# Altium schematic symbol library PUMAlib.SchLib: 66 symbols
Pins are listed as number, name and electrical type; pins without a type are passive.

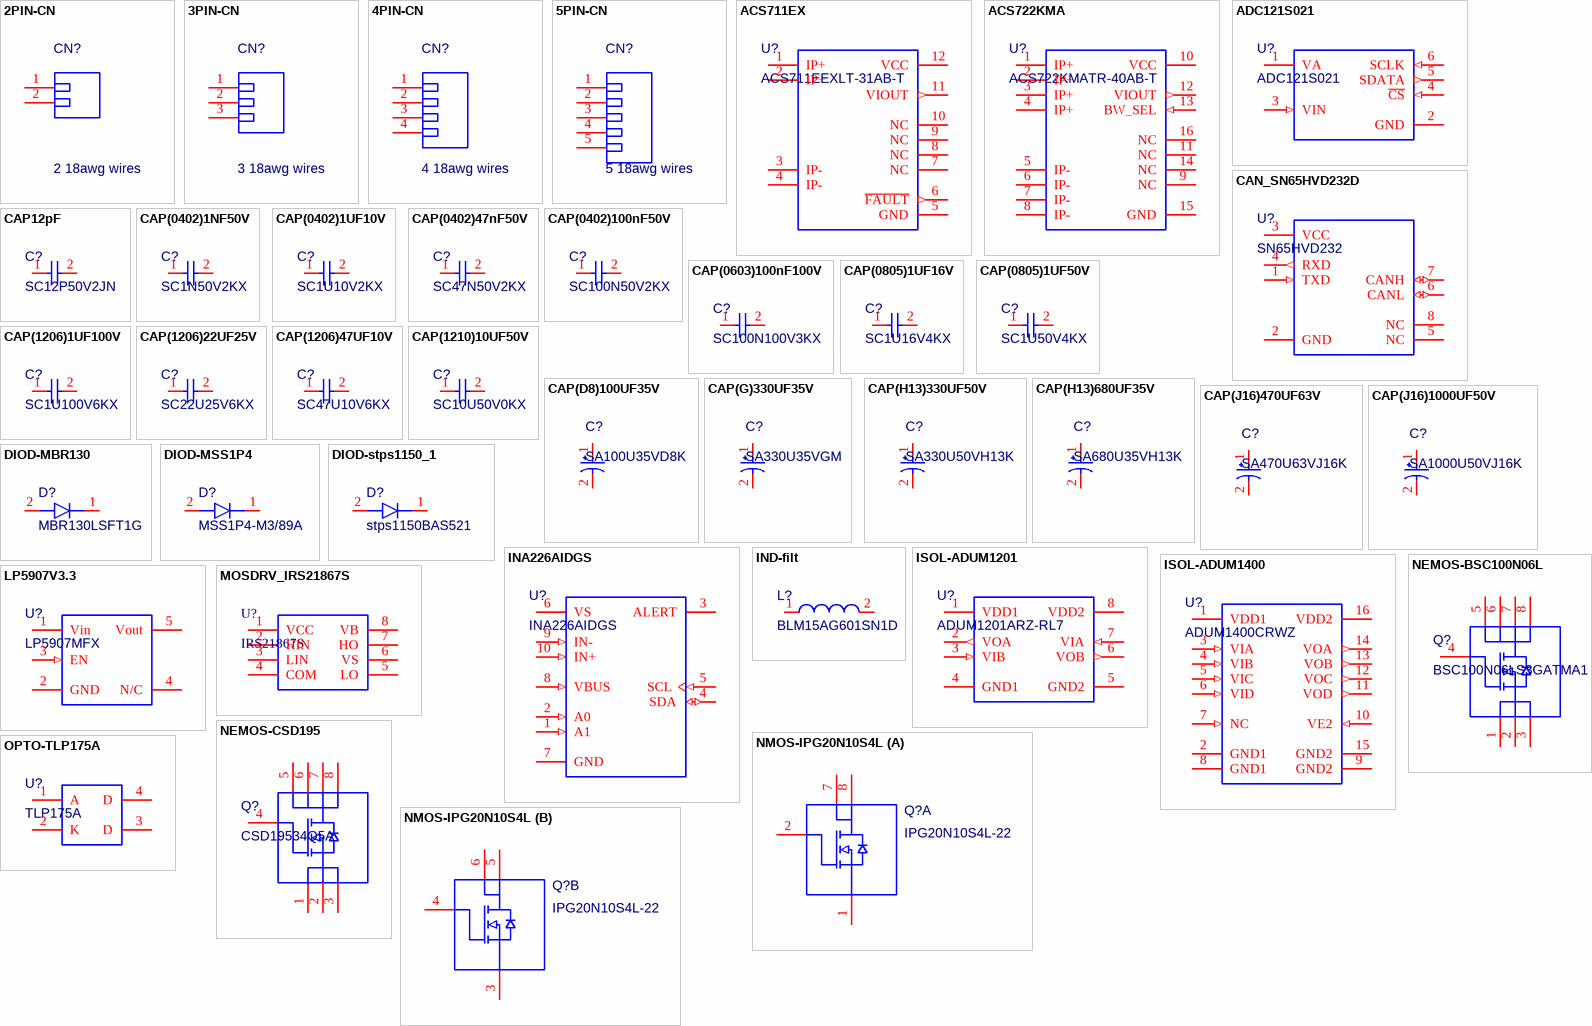
[diagram p0: symbols 2PIN-CN to OPTO-TLP175A]

## 2PIN-CN
designator CN?, comment 2 18awg wires  (no BOM)
2 holes for 18awg wire; Manufacturer: JST; Datasheet URL: http://www.jst-mfg.com/product/pdf/eng/eGH.pdf; Package Reference: JST-BM04B-GHS-TBT
footprint 2PHEADERS-2D54
pins: 1, 2

## 3PIN-CN
designator CN?, comment 3 18awg wires  (no BOM)
3 holes for 18awg wire; Manufacturer: JST; Datasheet URL: http://www.jst-mfg.com/product/pdf/eng/eGH.pdf; Package Reference: JST-BM04B-GHS-TBT
footprint 3PHEADERS-2D54
pins: 1, 2, 3

## 4PIN-CN
designator CN?, comment 4 18awg wires  (no BOM)
4 holes for 18awg wire; Manufacturer: JST; Datasheet URL: http://www.jst-mfg.com/product/pdf/eng/eGH.pdf; Package Reference: JST-BM04B-GHS-TBT
footprint 4PHEADERS-2D54
pins: 1, 2, 3, 4

## 5PIN-CN
designator CN?, comment 5 18awg wires  (no BOM)
5 holes for 18awg wire; Manufacturer: JST; Datasheet URL: http://www.jst-mfg.com/product/pdf/eng/eGH.pdf; Package Reference: JST-BM04B-GHS-TBT
footprint 5PHEADERS-2D54
pins: 1, 2, 3, 4, 5

## ACS711EX
designator U?, comment ACS711EEXLT-31AB-T
High Accuracy, Hall-Effect Based Current Sensor / IC in High Isolation QFN Package
footprint ACS711EX (QFN,)
pins: 1 IP+, 2 IP+, 3 IP-, 4 IP-, 5 GND (power), 6 ~{FAULT} (out), 7 NC, 8 NC, 9 NC, 10 NC, 11 VIOUT (out), 12 VCC (power)

## ACS722KMA
designator U?, comment ACS722KMATR-40AB-T
High Accuracy, Hall-Effect Based Current Sensor / IC in High Isolation SOIC16 Package
footprint SOIC127P1030X265-16L (SOIC, 16-Leads, Body 10,30x7,50mm, Pitch 1,27mm, IPC High Density)
pins: 1 IP+, 2 IP+, 3 IP+, 4 IP+, 5 IP-, 6 IP-, 7 IP-, 8 IP-, 9 NC, 10 VCC (power), 11 NC, 12 VIOUT (out), 13 BW_SEL (in), 14 NC, 15 GND (power), 16 NC

## ADC121S021
designator U?
Single-Channel, 50- to 200-ksps, 12-Bit A/D Converter
footprint SOT-23-adc (SOT23, 6-Leads, Body 2,90x2,80mm, Pitch 0,95mm, IPC High Density)
pins: 1 VA (power), 2 GND (power), 3 VIN (in), 4 ~{CS} (in), 5 SDATA (out), 6 SCLK (in)

## CAN_SN65HVD232D
designator U?, comment SN65HVD232
IC CAN TRANSCEIVER 8-SOIC
footprint SOIC127P600X175-8L (SOIC, 8-Leads, Body 4,90x3,90mm, Pitch 1,27mm, IPC High Density)
pins: 1 TXD (in), 2 GND (power), 3 VCC (power), 4 RXD (out), 5 NC, 6 CANL (io), 7 CANH (io), 8 NC

## CAP12pF
designator C?, comment SC12P50V2JN
CAP 12pF 50V ±5% 0402 (1005 Metric) Thickness 0.33mm SMD
footprint CAPC0402(1005)33_L
pins: 1, 2

## CAP(0402)1NF50V
designator C?, comment SC1N50V2KX
CAP 1nF 50V ±10% 0402 (1005 Metric) Thickness 0.6mm SMD
footprint CAPC0402(1005)60_L
pins: 1, 2

## CAP(0402)1UF10V
designator C?, comment SC1U10V2KX
CAP 1uF 10V ±10% 0402 (1005 Metric) Thickness 0.6mm SMD
footprint CAPC0402(1005)60_L
pins: 1, 2

## CAP(0402)47nF50V
designator C?, comment SC47N50V2KX
CAP 47nF 50V ±10% 0402 (1005 Metric) Thickness 0.6mm SMD
footprint CAPC0402(1005)60_L
pins: 1, 2

## CAP(0402)100nF50V
designator C?, comment SC100N50V2KX
CAP 100nF 50V ±10% 0402 (1005 Metric) Thickness 0.6mm SMD
footprint CAPC0402(1005)60_L
pins: 1, 2

## CAP(0603)100nF100V
designator C?, comment SC100N100V3KX
CAP 100nF 100V ±10% 0603(1608 Metric) Thickness 1mm SMD
footprint CAPC0603(1608)100_L
pins: 1, 2

## CAP(0805)1UF16V
designator C?, comment SC1U16V4KX
CAP 1uF 16V ±10% 0805(1610 Metric) Thickness 0.6mm SMD
footprint CAPC0805(2012)145_L
pins: 1, 2

## CAP(0805)1UF50V
designator C?, comment SC1U50V4KX
CAP 1uF 50V ±10% 0805(1610 Metric) Thickness 1.2mm SMD
footprint CAPC0805(2012)145_L
pins: 1, 2

## CAP(1206)1UF100V
designator C?, comment SC1U100V6KX
CAP 1uF 100V ±10% 1206(3216 Metric) Thickness 1.8mm SMD
footprint CAPC1206(3216) (Chip Capacitor, 2-Leads, Body 3,20x1,60mm, IPC High Density)
pins: 1, 2

## CAP(1206)22UF25V
designator C?, comment SC22U25V6KX
CAP 22uF 25V ±10% 1206(3216 Metric) Thickness 1.8mm SMD
footprint CAPC1206(3216) (Chip Capacitor, 2-Leads, Body 3,20x1,60mm, IPC High Density)
pins: 1, 2

## CAP(1206)47UF10V
designator C?, comment SC47U10V6KX
CAP 47uF 10V ±10% 1206(3216 Metric) Thickness 1.8mm SMD
footprint CAPC1206(3216) (Chip Capacitor, 2-Leads, Body 3,20x1,60mm, IPC High Density)
pins: 1, 2

## CAP(1210)10UF50V
designator C?, comment SC10U50V0KX
CAP 10uF 50V ±10% 1210(3225 Metric) Thickness 1.7mm SMD
footprint CAPC3225X27L (Chip Capacitor, 2-Leads, Body 3,20x2,50mm, IPC High Density)
pins: 1, 2

## CAP(D8)100UF35V
designator C?, comment SA100U35VD8K
CAP 100uF 35V ±10% D8 Thickness 7.7mm SMD
footprint CAPAE(D8)7666X80L (Aluminum Electrolytic Capacitor, Body 6,60x6,60x8,00mm, IPC High Density)
pins: 1, 2

## CAP(G)330UF35V
designator C?, comment SA330U35VGM
CAP 330uF 35V ±20% G Thickness 14mm SMD
footprint CAPAE118103X105L (Aluminum Electrolytic Capacitor, Body 10,30x10,30x10,50mm, IPC High Density)
pins: 1, 2

## CAP(H13)330UF50V
designator C?, comment SA330U50VH13K
CAP 330uF 50V ±10% H13 Thickness 14mm SMD
footprint CAPAE145135X140L (Aluminum Electrolytic Capacitor, Body 13,50x13,50x14,00mm, IPC High Density)
pins: 1, 2

## CAP(H13)680UF35V
designator C?, comment SA680U35VH13K
CAP 680uF 35V ±10% H13 Thickness 14mm SMD
footprint CAPAE145135X140L (Aluminum Electrolytic Capacitor, Body 13,50x13,50x14,00mm, IPC High Density)
pins: 1, 2

## CAP(J16)470UF63V
designator C?, comment SA470U63VJ16K
EEVFK1J471M CAP 470uF 63V ±10% J16 Thickness 17mm SMD
footprint CAPAE184170X170L (Aluminum Electrolytic Capacitor, Body 17,00x17,00x17,00mm, IPC High Density)
pins: 1, 2

## CAP(J16)1000UF50V
designator C?, comment SA1000U50VJ16K
CAP 1000uF 50V ±10% J16 Thickness 17mm SMD
footprint CAPAE184170X170L (Aluminum Electrolytic Capacitor, Body 17,00x17,00x17,00mm, IPC High Density)
pins: 1, 2

## DIOD-MBR130
designator D?, comment MBR130LSFT1G
1А 30В [SOD-123FL] / , RoHS, Tape and Reel; Manufacturer: Rohm; Package Reference: ROHM-1SS400CSFH; Datasheet URL: https://www.rohm.com/datasheet/1SS400CSFH/1ss400csfht2ra-e
footprint SOD-123LF (SODFL, 2-Leads, Body 1,65x3,60mm, IPC High Density)
pins: 1 K, 2 A

## DIOD-MSS1P4
designator D?, comment MSS1P4-M3/89A
40 V, 1 A, 2-Pin MicroSMP (DO-219AD) / , RoHS, Tape and Reel; Manufacturer: Rohm; Package Reference: ROHM-1SS400CSFH; Datasheet URL: https://www.rohm.com/datasheet/1SS400CSFH/1ss400csfht2ra-e
footprint SODFL250X73-2L (SODFL, 2-Leads, Body 1,30x2,50mm, IPC High Density)
pins: 1 K, 2 A

## DIOD-stps1150_1
designator D?, comment stps1150BAS521
150 V, 1 A, 2-Pin SMA, RoHS, Tape and Reel; Manufacturer: Rohm; Package Reference: ROHM-1SS400CSFH; Datasheet URL: https://www.rohm.com/datasheet/1SS400CSFH/1ss400csfht2ra-e
footprint SMA-DIOD (Molded Diode, 2-Leads, Body 4,28x2,58mm, IPC High Density)
pins: 1 K, 2 A

## INA226AIDGS
designator U?
High or Low Side Measurement, 2.7 to 5.5 V, -40 to 125 degC, 16-Pin QFN, RoHS, Tape and Reel
footprint TSSOP50P500X110-10L (TSSOP, 10-Leads, Body 3,00x3,00mm, Pitch 0,50mm, IPC High Density)
pins: 1 A1 (in), 2 A0 (in), 3 ALERT (oc), 4 SDA (io), 5 SCL (in), 6 VS (power), 7 GND (power), 8 VBUS (in), 9 IN- (in), 10 IN+ (in)

## IND-filt
designator L?, comment BLM15AG601SN1D
Chip Ferrite Bead Single Type 600 Ohms 300mA
footprint INDC1005X06L (Chip Inductor, 2-Leads, Body 1,00x0,50mm, IPC High Density)
pins: 1, 2

## ISOL-ADUM1201
designator U?, comment ADUM1201ARZ-RL7
ISOLATOR 1ch out/ 1ch in
footprint SOIC127P600X175-8L (SOIC, 8-Leads, Body 4,90x3,90mm, Pitch 1,27mm, IPC High Density)
pins: 1 VDD1 (power), 2 VOA (out), 3 VIB (in), 4 GND1 (power), 5 GND2 (power), 6 VOB (out), 7 VIA (in), 8 VDD2 (power)

## ISOL-ADUM1400
designator U?, comment ADUM1400CRWZ
ISOLATOR 4ch in
footprint SOIC127P1030X265-16L (SOIC, 16-Leads, Body 10,30x7,50mm, Pitch 1,27mm, IPC High Density)
pins: 1 VDD1 (power), 2 GND1 (power), 3 VIA (in), 4 VIB (in), 5 VIC (in), 6 VID (in), 7 NC (in), 8 GND1 (power), 9 GND2 (power), 10 VE2 (in), 11 VOD (out), 12 VOC (out), 13 VOB (out), 14 VOA (out), 15 GND2 (power), 16 VDD2 (power)

## LP5907V3.3
designator U?, comment LP5907MFX
3.3V 250mA
footprint SOT95P280X145-5L (SOT23, 5-Leads, Body 2,90x2,80mm, Pitch 0,95mm, IPC High Density)
pins: 1 Vin (power), 2 GND (power), 3 EN (in), 4 N/C, 5 Vout (power)

## MOSDRV_IRS21867S
designator U?, comment IRS21867S
footprint SOIC127P600X175-8L (SOIC, 8-Leads, Body 4,90x3,90mm, Pitch 1,27mm, IPC High Density)
pins: 1 VCC, 2 HIN, 3 LIN, 4 COM, 5 LO, 6 VS, 7 HO, 8 VB

## NEMOS-BSC100N06L
designator Q?, comment BSC100N06LS3GATMA1
100 V N-Channel NexFET™ Power MOSFETs
footprint PG-TDSON-8-1 (SON, 8-Leads, Body 5,15x5,90mm, Pitch 1,27mm, IPC High Density)
pins: 1, 2, 3, 4 (oc), 5 (oc), 6 (oc), 7 (oc), 8 (oc)

## NEMOS-CSD195
designator Q?, comment CSD19534Q5A
100 V N-Channel NexFET™ Power MOSFETs
footprint SON127P580X110-8L (SON, 8-Leads, Body 4,85x5,75mm, Pitch 1,27mm, IPC High Density)
pins: 1, 2, 3, 4 (oc), 5 (oc), 6 (oc), 7 (oc), 8 (oc)

## NMOS-IPG20N10S4L
designator Q?, comment IPG20N10S4L-22
OptiMOS™-T2 Power-Transistor V DS 100 V / R DS(on) max 22 mOhm / ID 20 A
footprint PG-TDSON-8-4 (SON, 8-Leads, Body 5,15x5,90mm, Pitch 1,27mm, IPC High Density)
part A pins: 1, 2 (oc), 7 (oc), 8 (oc)
part B pins: 3, 4 (oc), 5 (oc), 6 (oc)

## OPTO-TLP175A
designator U?, comment TLP175A
footprint SOP254P700X220-4L (SOP, 4-Leads, Body 3,75x4,60mm, Pitch 2,54mm, IPC High Density)
pins: 1 A, 2 K, 3 D, 4 D

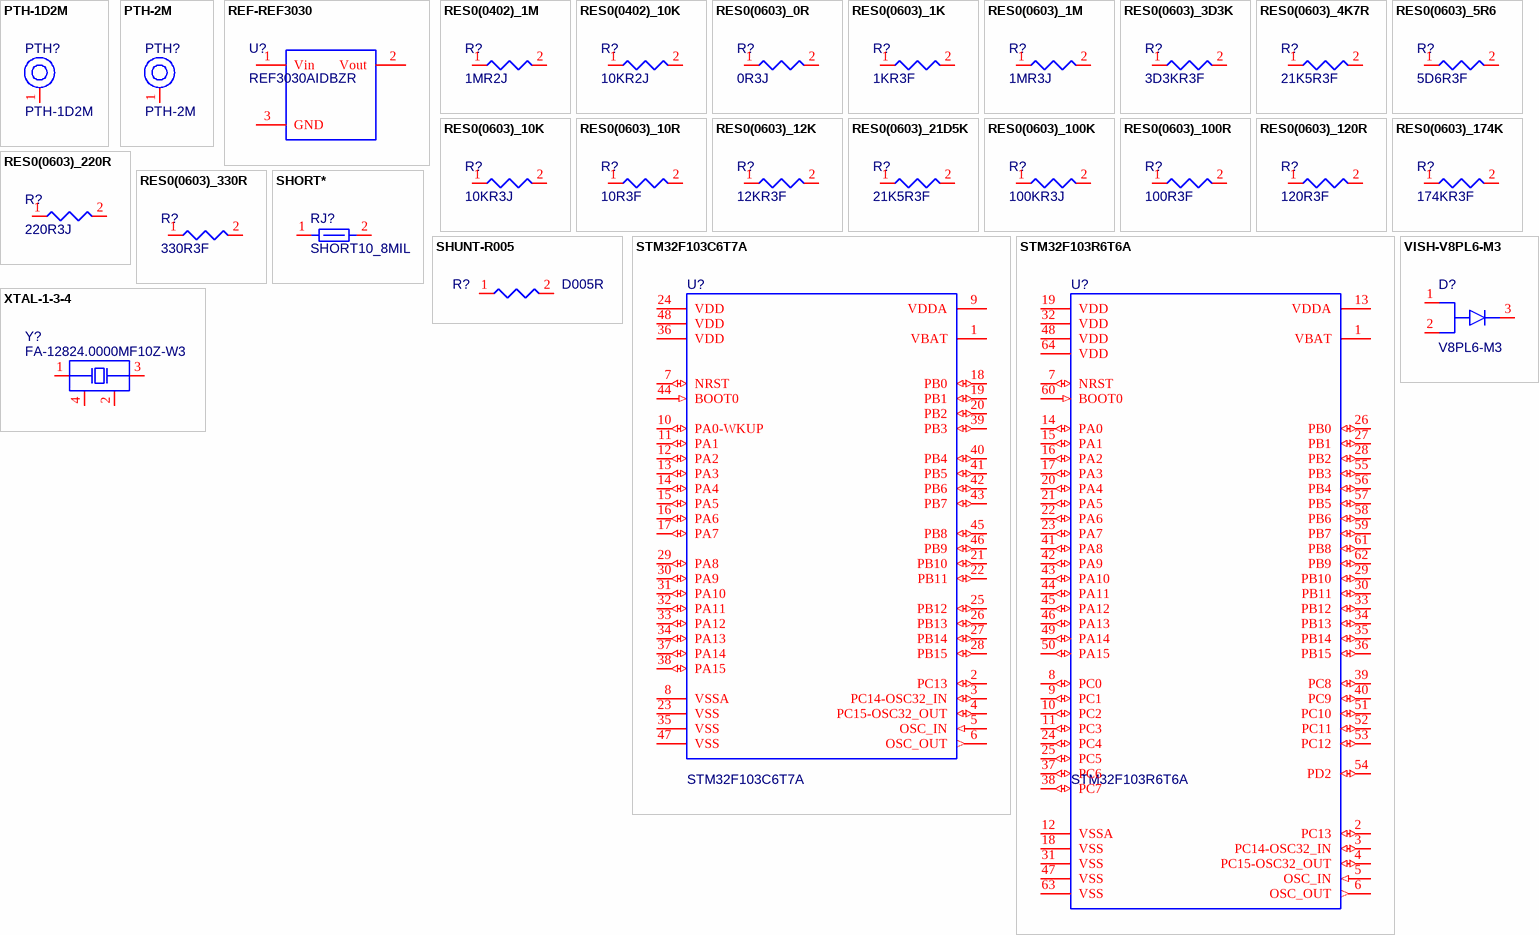
[diagram p1: symbols PTH-1D2M to XTAL-1-3-4]

## PTH-1D2M
designator PTH?  (no BOM)
1.2mm hole 2mm pad; Pad diameter (mm): 5; Hole diameter (mm): 2.5
footprint POWERHOLE-LP
pins: 1 H1

## PTH-2M
designator PTH?  (no BOM)
2mm hole 3.5mm pad; Pad diameter (mm): 5; Hole diameter (mm): 2.5
footprint POWERHOLE
pins: 1 H1

## REF-REF3030
designator U?, comment REF3030AIDBZR
3V 25mA 0.2%
footprint SOT95P237X112-3L (SOT23, 3-Leads, Body 2,92x2,37mm, Pitch 0,95mm, IPC High Density)
pins: 1 Vin (power), 2 Vout (power), 3 GND (power)

## RES0(0402)_1M
designator R?, comment 1MR2J
1M 0.063W 5% 0402 (1005 Metric)  SMD
footprint RESC0402(1005)_L
pins: 1, 2

## RES0(0402)_10K
designator R?, comment 10KR2J
10K 0.063W 5% 0402 (1005 Metric)  SMD
footprint RESC0402(1005)_L
pins: 1, 2

## RES0(0603)_0R
designator R?, comment 0R3J
Jumper 0603 (1608 Metric) SMD
footprint RESC0603(1608)_L
pins: 1, 2

## RES0(0603)_1K
designator R?, comment 1KR3F
1K 0.1W 1% 0603 (1608 Metric)  SMD
footprint RESC0603(1608)_L
pins: 1, 2

## RES0(0603)_1M
designator R?, comment 1MR3J
1M 0.1W 5% 0603 (1608 Metric)  SMD
footprint RESC0603(1608)_L
pins: 1, 2

## RES0(0603)_3D3K
designator R?, comment 3D3KR3F
3.3K 0.1W 1% 0603 (1608 Metric)  SMD
footprint RESC0603(1608)_L
pins: 1, 2

## RES0(0603)_4K7R
designator R?, comment 21K5R3F
4K7R 0.1W 1% 0603 (1608 Metric)  SMD
footprint RESC0603(1608)_L
pins: 1, 2

## RES0(0603)_5R6
designator R?, comment 5D6R3F
5.6R 0.1W 1% 0603 (1608 Metric)  SMD
footprint RESC0603(1608)_L
pins: 1, 2

## RES0(0603)_10K
designator R?, comment 10KR3J
10K 0.1W 5% 0603 (1608 Metric)  SMD
footprint RESC0603(1608)_L
pins: 1, 2

## RES0(0603)_10R
designator R?, comment 10R3F
10R 0.1W 1% 0603 (1608 Metric)  SMD
footprint RESC0603(1608)_L
pins: 1, 2

## RES0(0603)_12K
designator R?, comment 12KR3F
12K 0.1W 1% 0603 (1608 Metric)  SMD
footprint RESC0603(1608)_L
pins: 1, 2

## RES0(0603)_21D5K
designator R?, comment 21K5R3F
21K5 0.1W 1% 0603 (1608 Metric)  SMD
footprint RESC0603(1608)_L
pins: 1, 2

## RES0(0603)_100K
designator R?, comment 100KR3J
100K 0.1W 5% 0603 (1608 Metric)  SMD
footprint RESC0603(1608)_L
pins: 1, 2

## RES0(0603)_100R
designator R?, comment 100R3F
100R 0.1W 1% 0603 (1608 Metric)  SMD
footprint RESC0603(1608)_L
pins: 1, 2

## RES0(0603)_120R
designator R?, comment 120R3F
120R 0.1W 1% 0603 (1608 Metric)  SMD
footprint RESC0603(1608)_L
pins: 1, 2

## RES0(0603)_174K
designator R?, comment 174KR3F
174K 0.1W 1% 0603 (1608 Metric)  SMD
footprint RESC0603(1608)_L
pins: 1, 2

## RES0(0603)_220R
designator R?, comment 220R3J
10R 0.1W 1% 0603 (1608 Metric)  SMD
footprint RESC0603(1608)_L
pins: 1, 2

## RES0(0603)_330R
designator R?, comment 330R3F
330R 0.1W 1% 0603 (1608 Metric)  SMD
footprint RESC0603(1608)_L
pins: 1, 2

## SHORT*
designator RJ?, comment SHORT10_8MIL  (net tie, no BOM)
Net tie (10x8mil); Resistance: 0; Tolerance: 5%; Value: 0; Pins: 2; Case/Package: 10x8mil; Mounting Technology: SMT
footprint SHORT10_8MIL-FP
pins: 1, 2

## SHUNT-R005
designator R?, comment D005R
Shunt 3W 2512 0.005ohm CRE2512-FZ-R005E-3; Power: None; Case-EIA: 2512; Technology: SMT; Value: 0.005 Ohm; Tolerance: None
footprint RESC2512(6434)_L (Chip Resistor, 2-Leads, Body 6,45x3,35mm, IPC High Density)
pins: 1, 2
1 alternate drawing of the same symbol

## STM32F103C6T7A
designator U?
ARM® Cortex®-M3 STM32F1 Microcontroller IC 32-Bit 72MHz 32KB 48-LFQP (7x7); Supply Voltage(Vcc) min (V): 2; FLASH Size (Prog) (kB): 512; Operating Frequency(F) (Processor speed) (MHz): 80; Internal RAM Size (kB): 160; Packing: Tape and Reel; Core: ARM Cortex-M4; I/Os: 38; Case/Package: UFQFN-48; RoHS Compliant: Yes; Mounting Technology: Surface Mount; ComponentLink1Description: Manufacturer URL; ComponentLink1URL: http://www.st.com/; Package Reference: UFQFPN48; ComponentLink2Description: Datasheet; ComponentLink2URL: http://www.st.com/st-web-ui/static/active/en/resource/technical/document/datasheet/CD00161566.pdf; Package Description: 48-Pin Ultra Thin Fine Pitch Quad Flat No-Lead, 7 x 7 x 0.6 mm Body, 0.5 mm Pitch, Exposed Pad
footprint TSQFP50P900X900X160-48L (TSQFP, 48-Leads, Body 7,00x7,00mm, Pitch 0,50mm, IPC High Density)
pins: 1 VBAT (power), 2 PC13 (io), 3 PC14-OSC32_IN (io) "PC14/OSC32_IN", 4 PC15-OSC32_OUT (io) "PC15/OSC32_OUT", 5 OSC_IN (in) "OSC_IN/PD0", 6 OSC_OUT (out) "OSC_OUT/PD1", 7 NRST (io), 8 VSSA (power), 9 VDDA (power), 10 PA0-WKUP (io) "PA0/WKUP/USART2_CTS/ADC12_IN0/TIM2_CH1_ETR", 11 PA1 (io) "PA1/USART2_RTS/ADC12_IN1/TIM2_CH2", 12 PA2 (io) "PA2/USART2_TX/ADC12_IN2/TIM2_CH3", 13 PA3 (io) "PA3/USART2_RX/ADC12_IN3/TIM2_CH4", 14 PA4 (io) "PA4/SPI1_NSS/USART2_CK/ADC12_IN4", 15 PA5 (io) "PA5/SPI1_SCK/ADC12_IN5", 16 PA6 (io) "PA6/SPI1_MISO/ADC12_IN6/TIM3_CH1/TIM1_BKIN", 17 PA7 (io) "PA7/SPI1_MOSI/ADC12_IN7/TIM3_CH2/TIM1_CH1N", 18 PB0 (io) "PB0/ADC12_IN8/TIM3_CH3/TIM1_CH2N", 19 PB1 (io) "PB1/ADC12_IN9/TIM3_CH4/TIM1_CH3N", 20 PB2 (io) "PB2/BOOT1", 21 PB10 (io) "PB10/I2C2_SCL/USART3_TX/TIM2_CH3", 22 PB11 (io) "PB11/I2C2_SDA/USART3_RX/TIM2_CH4", 23 VSS (power), 24 VDD (power), 25 PB12 (io) "PB12/SPI2_NSS/I2C2_SMBAl/USART3_CK/TIM1_BKIN", 26 PB13 (io) "PB13/SPI2_SCK/USART3_CTS/TIM1_CH1N", 27 PB14 (io) "PB14/SPI2_MISO/USART3_RTS/TIM1_CH2N", 28 PB15 (io) "PB15/SPI2_MOSI/TIM1_CH3N", 29 PA8 (io) "PA8/USART1_CK/TIM1_CH1/MCO", 30 PA9 (io) "PA9/USART1_TX/TIM1_CH2", 31 PA10 (io) "PA10/USART1_RX/TIM1_CH3", 32 PA11 (io) "PA11/USART1_CTS/CANRX/USBDM/TIM1_CH4", 33 PA12 (io) "PA12/USART1_RTS/CANTX/USBDP/TIM1_ETR", 34 PA13 (io) "JTMS/SWDIO/PA13", 35 VSS (power), 36 VDD (power), 37 PA14 (io) "JTCK/SWCLK/PA14", 38 PA15 (io) "JTDI/TIM2_CH1_ETR/PA15/SPI1_NSS", 39 PB3 (io) "JTDO/TIM2_CH2/PB3/TRACESWO/SPI1_SCK", 40 PB4 (io) "JNTRST/TIM3_CH1/PB4/SPI1_MISO", 41 PB5 (io) "PB5/ I2C1_SMBAI/TIM3_CH2/SPI1_MOSI", 42 PB6 (io) "PB6/I2C1_SCL/TIM4_CH1/USART1_TX", 43 PB7 (io) "PB7/I2C1_SDA/TIM4_CH2/USART1_RX", 44 BOOT0 (in), 45 PB8 (io) "PB8/TIM4_CH3/I2C1_SCL/CANRX", 46 PB9 (io) "PB9/TIM4_CH4/I2C1_SDA/CANTX", 47 VSS (power), 48 VDD (power)

## STM32F103R6T6A
designator U?
Supply Voltage(Vcc) min (V): 2; FLASH Size (Prog) (kB): 512; Operating Frequency(F) (Processor speed) (MHz): 80; Internal RAM Size (kB): 160; Packing: Tape and Reel; Core: ARM Cortex-M4; I/Os: 38; Case/Package: UFQFN-48; RoHS Compliant: Yes; Mounting Technology: Surface Mount; ComponentLink1Description: Manufacturer URL; ComponentLink1URL: http://www.st.com/; Package Reference: UFQFPN48; ComponentLink2Description: Datasheet; ComponentLink2URL: http://www.st.com/st-web-ui/static/active/en/resource/technical/document/datasheet/CD00161566.pdf; Package Description: 48-Pin Ultra Thin Fine Pitch Quad Flat No-Lead, 7 x 7 x 0.6 mm Body, 0.5 mm Pitch, Exposed Pad
footprint TSQFP50P1200X1200X160-64L (TSQFP, 64-Leads, Body 10,00x10,00mm, Pitch 0,50mm, IPC High Density)
pins: 1 VBAT (power), 2 PC13 (io), 3 PC14-OSC32_IN (io) "PC14/OSC32_IN", 4 PC15-OSC32_OUT (io) "PC15/OSC32_OUT", 5 OSC_IN (in) "OSC_IN/PD0", 6 OSC_OUT (out) "OSC_OUT/PD1", 7 NRST (io), 8 PC0 (io), 9 PC1 (io), 10 PC2 (io), 11 PC3 (io), 12 VSSA (power), 13 VDDA (power), 14 PA0 (io) "PA0/WKUP", 15 PA1 (io), 16 PA2 (io), 17 PA3 (io), 18 VSS (power), 19 VDD (power), 20 PA4 (io), 21 PA5 (io), 22 PA6 (io), 23 PA7 (io), 24 PC4 (io), 25 PC5 (io), 26 PB0 (io), 27 PB1 (io), 28 PB2 (io), 29 PB10 (io), 30 PB11 (io), 31 VSS (power), 32 VDD (power), 33 PB12 (io), 34 PB13 (io), 35 PB14 (io), 36 PB15 (io), 37 PC6 (io), 38 PC7 (io), 39 PC8 (io), 40 PC9 (io), 41 PA8 (io), 42 PA9 (io), 43 PA10 (io), 44 PA11 (io), 45 PA12 (io), 46 PA13 (io), 47 VSS (power), 48 VDD (power), 49 PA14 (io), 50 PA15 (io), 51 PC10 (io), 52 PC11 (io), 53 PC12 (io), 54 PD2 (io), 55 PB3 (io), 56 PB4 (io), 57 PB5 (io), 58 PB6 (io), 59 PB7 (io), 60 BOOT0 (in), 61 PB8 (io), 62 PB9 (io), 63 VSS (power), 64 VDD (power)

## VISH-V8PL6-M3
designator D?, comment V8PL6-M3
High Current Density Surface Mount / Trench MOS Barrier Schottky Rectifier / Ultra Low VF = 0.34 V at IF = 4 A; Packing: Tape and Reel; IF Max (A): 0.1; trr Max (ns): 4; Configuration: Single; PackageDescription: 3-Pin Small Outline Transistor, Body 1.2 x 0.8 mm, Pitch 0.4 mm; Mounting Technology: Surface Mount; RoHS: TRUE; PackageVersion: Rev. D, 08/2009; ComponentLink2URL: http://www.onsemi.cn/pub_link/Collateral/DAN222M3-D.PDF; ComponentLink3URL: http://www.onsemi.com/pub_link/Collateral/631AA.PDF; ComponentLink3Description: Package Specification; DatasheetVersion: Rev. 6; PackageReference: SOT-723-3-631AA-01; ComponentLink1URL: http://www.onsemi.com/; ComponentLink1Description: Manufacturer URL; ComponentLink2Description: Datasheet
footprint DFN442P610X120-3L (DFN, 3-Leads, Body 4,30x6,10mm, Pitch 4,42mm, IPC High Density)
pins: 1 A1, 2 A2, 3 K

## XTAL-1-3-4
designator Y?, comment FA-12824.0000MF10Z-W3
Crystal, 24 MHz, +/- 10 ppm, -20 to 75 degC, 4-Pin SMD, RoHS, Tape and Reel; Frequency Tolerance: 10ppm; Load Capacitance: 12pF; Frequency: 24MHz; ESR (Equivalent Series Resistance): 80R; Length: 0.079inch; Frequency Stability: 10ppm; Width: 0.063inch; Mounting Technology: SMT; Tolerance: 10ppm; RoHS Compliant: Yes; Termination: SMD/SMT; Number of Pins: 4; Package Quantity: 250; Max Operating Temperature: 75°C; Packaging: Tape and Reel; Radiation Hardening: No; Mount: Surface Mount; Lead Free: Lead Free; Case/Package: SMD/SMT; Height: 0.02inch; Min Operating Temperature: -20°C
footprint QRTZ-12mhz
pins: 1 X1, 2 NC (power), 3 X2, 4 NC (power)